# Altium schematic symbol library WL-SFCC.SchLib: 2 symbols
Pins are listed as number, name and electrical type; pins without a type are passive.

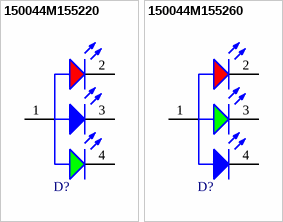
[diagram p0: symbols 150044M155220 to 150044M155260]

## 150044M155220
designator D?, comment Red & Green & Blue, 120°  (value not drawn)
WL-SFCC SMT Full-color Chip LED Compact, size 0404, Red & Green & Blue, 120°; Manufacturer Part Number: 150044M155220; Manufacturer: Wurth Elektronik; Case/Size Code: 0404; Chip Technology: AlInGaP + InGaN; Dominant Wavelength (Blue): 465nm; Dominant Wavelength (Green): 525nm; Dominant Wavelength (Red): 623nm; Forward Voltage (Blue): 3V; Forward Voltage (Red): 2V; Luminous Intensity (Blue): 110mcd; Luminous Intensity (Green): 500mcd; Luminous Intensity (Red): 200mcd; Peak Wavelength (Blue): 460nm; Peak Wavelength (Green): 520nm; Peak Wavelength (Red): 630nm; Category: Signal LEDs; Match Code: WL-SFCC; ComponentLink1Description: Website Link; ComponentLink1URL: https://www.we-online.com/redexpert/article/150044M155220?ad; ComponentLink2Description: Datasheet Link; ComponentLink2URL: https://www.we-online.com/redexpert/spec/150044M155220?ad; Mount: Surface Mount; Operating Temperature Max: 85°C; Operating Temperature Min: -40°C; Packaging: Tape and Reel; Length: 0.95mm; Width: 0.95mm; Height: 0.25mm; Emitting Color: Red & Green & Blue; Forward Voltage (Green): 3V; Viewing Angle: 120°
footprint WL-SFCC_0404_150044M155220
simulation model 0404_150044M155220
pins: 1 A, 2 K, 3 K, 4 K

## 150044M155260
designator D?, comment Red & Green & Blue, 140°  (value not drawn)
WL-SFCC SMT Full-color Chip LED Compact, size 0404, Red & Green & Blue, 140°; Manufacturer Part Number: 150044M155260; Manufacturer: Wurth Elektronik; Case/Size Code: 0404; Chip Technology: AlInGaP + InGaN; Dominant Wavelength (Blue): 470nm; Dominant Wavelength (Green): 530nm; Dominant Wavelength (Red): 621nm; Forward Voltage (Blue): 2.8V; Forward Voltage (Green): 2.7V; Forward Voltage (Red): 2V; Luminous Intensity (Blue): 50mcd; Luminous Intensity (Green): 180mcd; Luminous Intensity (Red): 80mcd; Peak Wavelength (Blue): 465nm; Peak Wavelength (Green): 522nm; Peak Wavelength (Red): 625nm; Category: Signal LEDs; Match Code: WL-SFCC; ComponentLink1Description: Website Link; ComponentLink1URL: https://www.we-online.com/redexpert/article/150044M155260?ad; ComponentLink2Description: Datasheet Link; ComponentLink2URL: https://www.we-online.com/redexpert/spec/150044M155260?ad; Mount: Surface Mount; Operating Temperature Max: 85°C; Operating Temperature Min: -40°C; Packaging: Tape and Reel; Length: 1mm; Width: 1mm; Height: 0.65mm; Emitting Color: Red & Green & Blue; Viewing Angle: 140°
footprint WL-SFCC_0404_150044M155260
simulation model 0404_150044M155260
pins: 1 A, 2 K, 3 K, 4 K